# Altium integrated library Resistors$.IntLib: 248 symbols (part 1 of 3)
Pins are listed as number, name and electrical type; pins without a type are passive.

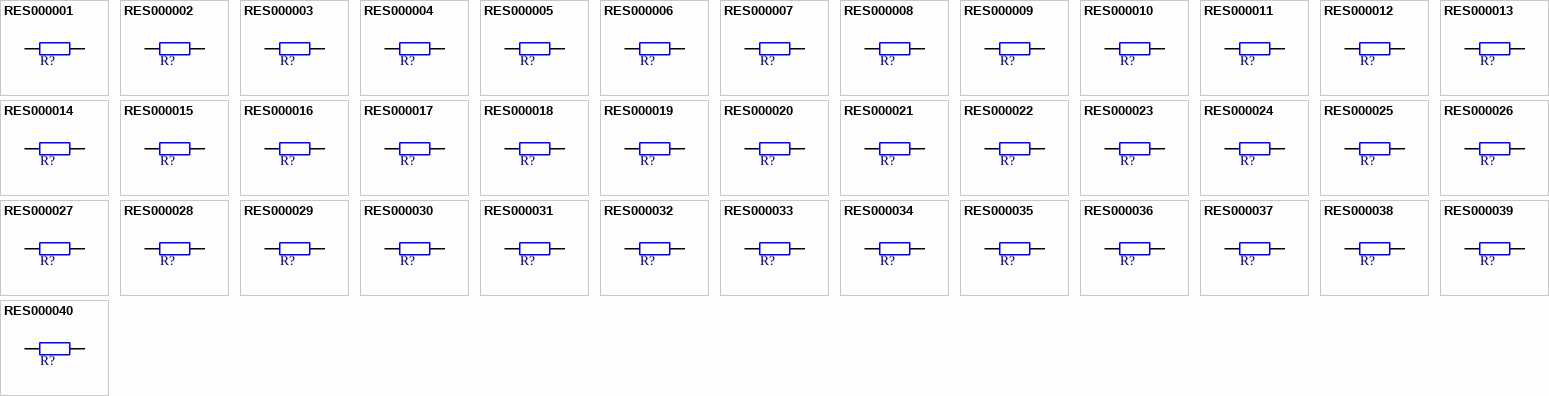
[diagram p0: symbols RES000001 to RES000040]

## RES000001
designator R?, comment 1  (value not drawn)
RES MF 1R TH; UoA Stock#: RES000001; Assembly Method: Through hole; Voltage/Current: 0.6W; Item Type: Item; Path: ece/ts/Lists/Stock Inventory; Value: 1; Size/Package: Axial 10mm; Supplier1: Element14; Supplier1-PN: 335216; Component Type: NA; Category: Resistor; Status: Active
footprint ECE-RESA0.4TH
pins: 1, 2

## RES000002
designator R?, comment 1.2  (value not drawn)
RES MF 1R2 TH; UoA Stock#: RES000002; Assembly Method: Through hole; Voltage/Current: 0.6W; Item Type: Item; Path: ece/ts/Lists/Stock Inventory; Value: 1.2; Size/Package: Axial 10mm; Supplier1: Active components; Supplier1-PN: T462738; Component Type: NA; Category: Resistor; Status: Active
footprint ECE-RESA0.4TH
pins: 1, 2

## RES000003
designator R?, comment 1.5R  (value not drawn)
RES MF 1R5 TH; UoA Stock#: RES000003; Assembly Method: Through hole; Voltage/Current: 0.6W; Item Type: Item; Path: ece/ts/Lists/Stock Inventory; Value: 1.5R; Size/Package: Axial 10mm; Supplier1: Active components; Supplier1-PN: T462162; Component Type: NA; Category: Resistor; Status: Active
footprint ECE-RESA0.4TH
pins: 1, 2

## RES000004
designator R?, comment 1.8R  (value not drawn)
RES MF 1R8 TH; UoA Stock#: RES000004; Assembly Method: Through hole; Voltage/Current: 0.6W; Item Type: Item; Path: ece/ts/Lists/Stock Inventory; Value: 1.8R; Size/Package: Axial 10mm; Supplier1: Active components; Supplier1-PN: T462164; Component Type: NA; Category: Resistor; Status: Active
footprint ECE-RESA0.4TH
pins: 1, 2

## RES000005
designator R?, comment 2.2R  (value not drawn)
RES MF 2R2 TH; UoA Stock#: RES000005; Assembly Method: Through hole; Voltage/Current: 0.6W; Item Type: Item; Path: ece/ts/Lists/Stock Inventory; Value: 2.2R; Size/Package: Axial 10mm; Supplier1: Active components; Supplier1-PN: T462168; Component Type: NA; Category: Resistor; Status: Active
footprint ECE-RESA0.4TH
pins: 1, 2

## RES000006
designator R?, comment 2.7R  (value not drawn)
RES MF 2R7 TH; UoA Stock#: RES000006; Assembly Method: Through hole; Voltage/Current: 0.6W; Item Type: Item; Path: ece/ts/Lists/Stock Inventory; Value: 2.7R; Size/Package: Axial 10mm; Supplier1: Active components; Supplier1-PN: T462170; Component Type: NA; Category: Resistor; Status: Active
footprint ECE-RESA0.4TH
pins: 1, 2

## RES000007
designator R?, comment 3.3R  (value not drawn)
RES MF 3R3 TH; UoA Stock#: RES000007; Assembly Method: Through hole; Voltage/Current: 0.6W; Item Type: Item; Path: ece/ts/Lists/Stock Inventory; Value: 3.3R; Size/Package: Axial 10mm; Supplier1: Active components; Supplier1-PN: T462174; Component Type: NA; Category: Resistor; Status: Active
footprint ECE-RESA0.4TH
pins: 1, 2

## RES000008
designator R?, comment 3.9R  (value not drawn)
RES MF 3R9 TH; UoA Stock#: RES000008; Assembly Method: Through hole; Voltage/Current: 0.6W; Item Type: Item; Path: ece/ts/Lists/Stock Inventory; Value: 3.9R; Size/Package: Axial 10mm; Supplier1: Active components; Supplier1-PN: T462176; Component Type: NA; Category: Resistor; Status: Active
footprint ECE-RESA0.4TH
pins: 1, 2

## RES000009
designator R?, comment 4.7R  (value not drawn)
RES MF 4R7 TH; UoA Stock#: RES000009; Assembly Method: Through hole; Voltage/Current: 0.6W; Item Type: Item; Path: ece/ts/Lists/Stock Inventory; Value: 4.7R; Size/Package: Axial 10mm; Supplier1: Active components; Supplier1-PN: T246800; Component Type: NA; Category: Resistor; Status: Active
footprint ECE-RESA0.4TH
pins: 1, 2

## RES000010
designator R?, comment 5.6R  (value not drawn)
RES MF 5R6 TH; UoA Stock#: RES000010; Assembly Method: Through hole; Voltage/Current: 0.6W; Item Type: Item; Path: ece/ts/Lists/Stock Inventory; Value: 5.6R; Size/Package: Axial 10mm; Supplier1: Active components; Supplier1-PN: T462182; Component Type: NA; Category: Resistor; Status: Active
footprint ECE-RESA0.4TH
pins: 1, 2

## RES000011
designator R?, comment 6.8R  (value not drawn)
RES MF 6R8 TH; UoA Stock#: RES000011; Assembly Method: Through hole; Voltage/Current: 0.6W; Item Type: Item; Path: ece/ts/Lists/Stock Inventory; Value: 6.8R; Size/Package: Axial 10mm; Supplier1: Active components; Supplier1-PN: T462185; Component Type: NA; Category: Resistor; Status: Active
footprint ECE-RESA0.4TH
pins: 1, 2

## RES000012
designator R?, comment 8.2R  (value not drawn)
RES MF 8R2 TH; UoA Stock#: RES000012; Assembly Method: Through hole; Voltage/Current: 0.6W; Item Type: Item; Path: ece/ts/Lists/Stock Inventory; Value: 8.2R; Size/Package: Axial 10mm; Supplier1: Active components; Supplier1-PN: T462188; Component Type: NA; Category: Resistor; Status: Active
footprint ECE-RESA0.4TH
pins: 1, 2

## RES000013
designator R?, comment 10R  (value not drawn)
RES MF 10R TH; UoA Stock#: RES000013; Assembly Method: Through hole; Voltage/Current: 0.6W; Item Type: Item; Path: ece/ts/Lists/Stock Inventory; Value: 10R; Size/Package: Axial 10mm; Supplier1: Active components; Supplier1-PN: T183970; Component Type: NA; Category: Resistor; Status: Active
footprint ECE-RESA0.4TH
pins: 1, 2

## RES000014
designator R?, comment 12R  (value not drawn)
RES MF 12R TH; UoA Stock#: RES000014; Assembly Method: Through hole; Voltage/Current: 0.6W; Item Type: Item; Path: ece/ts/Lists/Stock Inventory; Value: 12R; Size/Package: Axial 10mm; Supplier1: Active components; Supplier1-PN: T183978; Component Type: NA; Category: Resistor; Status: Active
footprint ECE-RESA0.4TH
pins: 1, 2

## RES000015
designator R?, comment 15R  (value not drawn)
RES MF 15R TH; UoA Stock#: RES000015; Assembly Method: Through hole; Voltage/Current: 0.6W; Item Type: Item; Path: ece/ts/Lists/Stock Inventory; Value: 15R; Size/Package: Axial 10mm; Supplier1: Active components; Supplier1-PN: T183987; Component Type: NA; Category: Resistor; Status: Active
footprint ECE-RESA0.4TH
pins: 1, 2

## RES000016
designator R?, comment 18R  (value not drawn)
RES MF 18R TH; UoA Stock#: RES000016; Assembly Method: Through hole; Voltage/Current: 0.6W; Item Type: Item; Path: ece/ts/Lists/Stock Inventory; Value: 18R; Size/Package: Axial 10mm; Supplier1: Active components; Supplier1-PN: T442059; Component Type: NA; Category: Resistor; Status: Active
footprint ECE-RESA0.4TH
pins: 1, 2

## RES000017
designator R?, comment 22R  (value not drawn)
RES MF 22R TH; UoA Stock#: RES000017; Assembly Method: Through hole; Voltage/Current: 0.6W; Item Type: Item; Path: ece/ts/Lists/Stock Inventory; Value: 22R; Size/Package: Axial 10mm; Supplier1: Active components; Supplier1-PN: T184012; Component Type: NA; Category: Resistor; Status: Active
footprint ECE-RESA0.4TH
pins: 1, 2

## RES000018
designator R?, comment 27R  (value not drawn)
RES MF 27R TH; UoA Stock#: RES000018; Assembly Method: Through hole; Voltage/Current: 0.6W; Item Type: Item; Path: ece/ts/Lists/Stock Inventory; Value: 27R; Size/Package: Axial 10mm; Supplier1: Active components; Supplier1-PN: T184019; Component Type: NA; Category: Resistor; Status: Active
footprint ECE-RESA0.4TH
pins: 1, 2

## RES000019
designator R?, comment 33R  (value not drawn)
RES MF 33R TH; UoA Stock#: RES000019; Assembly Method: Through hole; Voltage/Current: 0.6W; Item Type: Item; Path: ece/ts/Lists/Stock Inventory; Value: 33R; Size/Package: Axial 10mm; Supplier1: Active components; Supplier1-PN: T442095; Component Type: NA; Category: Resistor; Status: Active
footprint ECE-RESA0.4TH
pins: 1, 2

## RES000020
designator R?, comment 39R  (value not drawn)
RES MF 39R TH; UoA Stock#: RES000020; Assembly Method: Through hole; Voltage/Current: 0.6W; Item Type: Item; Path: ece/ts/Lists/Stock Inventory; Value: 39R; Size/Package: Axial 10mm; Supplier1: Active components; Supplier1-PN: T184038; Component Type: NA; Category: Resistor; Status: Active
footprint ECE-RESA0.4TH
pins: 1, 2

## RES000021
designator R?, comment 47R  (value not drawn)
RES MF 47R TH; UoA Stock#: RES000021; Assembly Method: Through hole; Voltage/Current: 0.6W; Item Type: Item; Path: ece/ts/Lists/Stock Inventory; Value: 47R; Size/Package: Axial 10mm; Supplier1: Active components; Supplier1-PN: T184048; Component Type: NA; Category: Resistor; Status: Active
footprint ECE-RESA0.4TH
pins: 1, 2

## RES000022
designator R?, comment 56R  (value not drawn)
RES MF 56R TH; UoA Stock#: RES000022; Assembly Method: Through hole; Voltage/Current: 0.6W; Item Type: Item; Path: ece/ts/Lists/Stock Inventory; Value: 56R; Size/Package: Axial 10mm; Supplier1: Active components; Supplier1-PN: T184060; Component Type: NA; Category: Resistor; Status: Active
footprint ECE-RESA0.4TH
pins: 1, 2

## RES000023
designator R?, comment 68R  (value not drawn)
RES MF 68R TH; UoA Stock#: RES000023; Assembly Method: Through hole; Voltage/Current: 0.6W; Item Type: Item; Path: ece/ts/Lists/Stock Inventory; Value: 68R; Size/Package: Axial 10mm; Supplier1: Active components; Supplier1-PN: T184070; Component Type: NA; Category: Resistor; Status: Active
footprint ECE-RESA0.4TH
pins: 1, 2

## RES000024
designator R?, comment 82R  (value not drawn)
RES MF 82R TH; UoA Stock#: RES000024; Assembly Method: Through hole; Voltage/Current: 0.6W; Item Type: Item; Path: ece/ts/Lists/Stock Inventory; Value: 82R; Size/Package: Axial 10mm; Supplier1: Active components; Supplier1-PN: T184081; Component Type: NA; Category: Resistor; Status: Active
footprint ECE-RESA0.4TH
pins: 1, 2

## RES000025
designator R?, comment 100R  (value not drawn)
RES MF 100R TH; UoA Stock#: RES000025; Assembly Method: Through hole; Voltage/Current: 0.6W; Item Type: Item; Path: ece/ts/Lists/Stock Inventory; Value: 100R; Size/Package: Axial 10mm; Supplier1: Active components; Supplier1-PN: T183968; Component Type: NA; Category: Resistor; Status: Active
footprint ECE-RESA0.4TH
pins: 1, 2

## RES000026
designator R?, comment 120R  (value not drawn)
RES MF 120R TH; UoA Stock#: RES000026; Assembly Method: Through hole; Voltage/Current: 0.6W; Item Type: Item; Path: ece/ts/Lists/Stock Inventory; Value: 120R; Size/Package: Axial 10mm; Supplier1: Active components; Supplier1-PN: T183976; Component Type: NA; Category: Resistor; Status: Active
footprint ECE-RESA0.4TH
pins: 1, 2

## RES000027
designator R?, comment 150R  (value not drawn)
RES MF 150R TH; UoA Stock#: RES000027; Assembly Method: Through hole; Voltage/Current: 0.6W; Item Type: Item; Path: ece/ts/Lists/Stock Inventory; Value: 150R; Size/Package: Axial 10mm; Supplier1: Active components; Supplier1-PN: T183985; Component Type: NA; Category: Resistor; Status: Active
footprint ECE-RESA0.4TH
pins: 1, 2

## RES000028
designator R?, comment 180R  (value not drawn)
RES MF 180R TH; UoA Stock#: RES000028; Assembly Method: Through hole; Voltage/Current: 0.6W; Item Type: Item; Path: ece/ts/Lists/Stock Inventory; Value: 180R; Size/Package: Axial 10mm; Supplier1: Active components; Supplier1-PN: T183993; Component Type: NA; Category: Resistor; Status: Active
footprint ECE-RESA0.4TH
pins: 1, 2

## RES000029
designator R?, comment 220R  (value not drawn)
RES MF 220R TH; UoA Stock#: RES000029; Assembly Method: Through hole; Voltage/Current: 0.6W; Item Type: Item; Path: ece/ts/Lists/Stock Inventory; Value: 220R; Size/Package: Axial 10mm; Supplier1: Active components; Supplier1-PN: T184010; Component Type: NA; Category: Resistor; Status: Active
footprint ECE-RESA0.4TH
pins: 1, 2

## RES000030
designator R?, comment 270R  (value not drawn)
RES MF 270R TH; UoA Stock#: RES000030; Assembly Method: Through hole; Voltage/Current: 0.6W; Item Type: Item; Path: ece/ts/Lists/Stock Inventory; Value: 270R; Size/Package: Axial 10mm; Supplier1: Active components; Supplier1-PN: T184017; Component Type: NA; Category: Resistor; Status: Active
footprint ECE-RESA0.4TH
pins: 1, 2

## RES000031
designator R?, comment 330R  (value not drawn)
RES MF 330R TH; UoA Stock#: RES000031; Assembly Method: Through hole; Voltage/Current: 0.6W; Item Type: Item; Path: ece/ts/Lists/Stock Inventory; Value: 330R; Size/Package: Axial 10mm; Supplier1: Active components; Supplier1-PN: T181673; Component Type: NA; Category: Resistor; Status: Active
footprint ECE-RESA0.4TH
pins: 1, 2

## RES000032
designator R?, comment 390R  (value not drawn)
RES MF 390R TH; UoA Stock#: RES000032; Assembly Method: Through hole; Voltage/Current: 0.6W; Item Type: Item; Path: ece/ts/Lists/Stock Inventory; Value: 390R; Size/Package: Axial 10mm; Supplier1: Active components; Supplier1-PN: T442101; Component Type: NA; Category: Resistor; Status: Active
footprint ECE-RESA0.4TH
pins: 1, 2

## RES000033
designator R?, comment 470R  (value not drawn)
RES MF 470R TH; UoA Stock#: RES000033; Assembly Method: Through hole; Voltage/Current: 0.6W; Item Type: Item; Path: ece/ts/Lists/Stock Inventory; Value: 470R; Size/Package: Axial 10mm; Supplier1: Active components; Supplier1-PN: T181649; Component Type: NA; Category: Resistor; Status: Active
footprint ECE-RESA0.4TH
pins: 1, 2

## RES000034
designator R?, comment 560R  (value not drawn)
RES MF 560R TH; UoA Stock#: RES000034; Assembly Method: Through hole; Voltage/Current: 0.6W; Item Type: Item; Path: ece/ts/Lists/Stock Inventory; Value: 560R; Size/Package: Axial 10mm; Supplier1: Active components; Supplier1-PN: T184056; Component Type: NA; Category: Resistor; Status: Active
footprint ECE-RESA0.4TH
pins: 1, 2

## RES000035
designator R?, comment 680R  (value not drawn)
RES MF 680R TH; UoA Stock#: RES000035; Assembly Method: Through hole; Voltage/Current: 0.6W; Item Type: Item; Path: ece/ts/Lists/Stock Inventory; Value: 680R; Size/Package: Axial 10mm; Supplier1: Active components; Supplier1-PN: T442134; Component Type: NA; Category: Resistor; Status: Active
footprint ECE-RESA0.4TH
pins: 1, 2

## RES000036
designator R?, comment 820R  (value not drawn)
RES MF 820R TH; UoA Stock#: RES000036; Assembly Method: Through hole; Voltage/Current: 0.6W; Item Type: Item; Path: ece/ts/Lists/Stock Inventory; Value: 820R; Size/Package: Axial 10mm; Supplier1: Active components; Supplier1-PN: T184079; Component Type: NA; Category: Resistor; Status: Active
footprint ECE-RESA0.4TH
pins: 1, 2

## RES000037
designator R?, comment 1K  (value not drawn)
RES MF 1K0 TH; UoA Stock#: RES000037; Assembly Method: Through hole; Voltage/Current: 0.6W; Item Type: Item; Path: ece/ts/Lists/Stock Inventory; Value: 1K; Size/Package: Axial 10mm; Supplier1: Active components; Supplier1-PN: T183997; Component Type: NA; Category: Resistor; Status: Active
footprint ECE-RESA0.4TH
pins: 1, 2

## RES000038
designator R?, comment 1k2  (value not drawn)
RES MF 1K2 TH; UoA Stock#: RES000038; Assembly Method: Through hole; Voltage/Current: 0.6W; Item Type: Item; Path: ece/ts/Lists/Stock Inventory; Value: 1k2; Size/Package: Axial 10mm; Supplier1: Active components; Supplier1-PN: T183999; Component Type: NA; Category: Resistor; Status: Active
footprint ECE-RESA0.4TH
pins: 1, 2

## RES000039
designator R?, comment 1K5  (value not drawn)
RES MF 1K5 TH; UoA Stock#: RES000039; Assembly Method: Through hole; Voltage/Current: 0.6W; Item Type: Item; Path: ece/ts/Lists/Stock Inventory; Value: 1K5; Size/Package: Axial 10mm; Supplier1: Active components; Supplier1-PN: T184001; Component Type: NA; Category: Resistor; Status: Active
footprint ECE-RESA0.4TH
pins: 1, 2

## RES000040
designator R?, comment 1K8  (value not drawn)
RES MF 1K8 TH; UoA Stock#: RES000040; Assembly Method: Through hole; Voltage/Current: 0.6W; Item Type: Item; Path: ece/ts/Lists/Stock Inventory; Value: 1K8; Size/Package: Axial 10mm; Supplier1: Active components; Supplier1-PN: T181650; Component Type: NA; Category: Resistor; Status: Active
footprint ECE-RESA0.4TH
pins: 1, 2

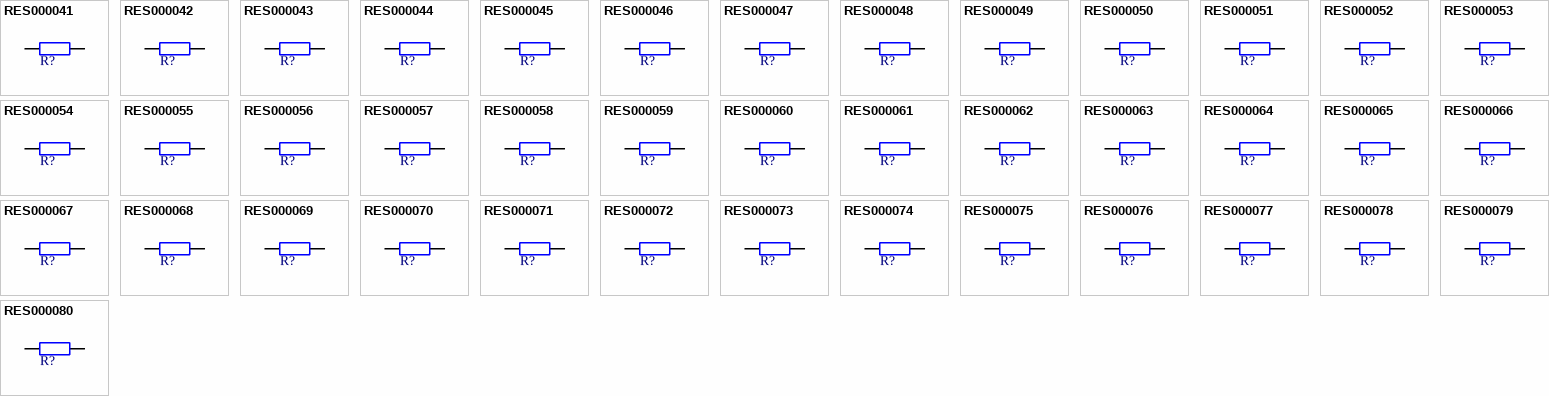
[diagram p1: symbols RES000041 to RES000080]

## RES000041
designator R?, comment 2K2  (value not drawn)
RES MF 2K2 TH; UoA Stock#: RES000041; Assembly Method: Through hole; Voltage/Current: 0.6W; Item Type: Item; Path: ece/ts/Lists/Stock Inventory; Value: 2K2; Size/Package: Axial 10mm; Supplier1: Active components; Supplier1-PN: T184021; Component Type: NA; Category: Resistor; Status: Active
footprint ECE-RESA0.4TH
pins: 1, 2

## RES000042
designator R?, comment 2K7  (value not drawn)
RES MF 2K7 TH; UoA Stock#: RES000042; Assembly Method: Through hole; Voltage/Current: 0.6W; Item Type: Item; Path: ece/ts/Lists/Stock Inventory; Value: 2K7; Size/Package: Axial 10mm; Supplier1: Active components; Supplier1-PN: T184023; Component Type: NA; Category: Resistor; Status: Active
footprint ECE-RESA0.4TH
pins: 1, 2

## RES000043
designator R?, comment 3K3  (value not drawn)
RES MF 3K3 TH; UoA Stock#: RES000043; Assembly Method: Through hole; Voltage/Current: 0.6W; Item Type: Item; Path: ece/ts/Lists/Stock Inventory; Value: 3K3; Size/Package: Axial 10mm; Supplier1: Active components; Supplier1-PN: T181651; Component Type: NA; Category: Resistor; Status: Active
footprint ECE-RESA0.4TH
pins: 1, 2

## RES000044
designator R?, comment 3K9  (value not drawn)
RES MF 3K9 TH; UoA Stock#: RES000044; Assembly Method: Through hole; Voltage/Current: 0.6W; Item Type: Item; Path: ece/ts/Lists/Stock Inventory; Value: 3K9; Size/Package: Axial 10mm; Supplier1: Active components; Supplier1-PN: T184041; Component Type: NA; Category: Resistor; Status: Active
footprint ECE-RESA0.4TH
pins: 1, 2

## RES000045
designator R?, comment 4K7  (value not drawn)
RES MF 4K7 TH; UoA Stock#: RES000045; Assembly Method: Through hole; Voltage/Current: 0.6W; Item Type: Item; Path: ece/ts/Lists/Stock Inventory; Value: 4K7; Size/Package: Axial 10mm; Supplier1: Active components; Supplier1-PN: T184050; Component Type: NA; Category: Resistor; Status: Active
footprint ECE-RESA0.4TH
pins: 1, 2

## RES000046
designator R?, comment 5K6  (value not drawn)
RES MF 5K6 TH; UoA Stock#: RES000046; Assembly Method: Through hole; Voltage/Current: 0.6W; Item Type: Item; Path: ece/ts/Lists/Stock Inventory; Value: 5K6; Size/Package: Axial 10mm; Supplier1: Active components; Supplier1-PN: T184062; Component Type: NA; Category: Resistor; Status: Active
footprint ECE-RESA0.4TH
pins: 1, 2

## RES000047
designator R?, comment 6K8  (value not drawn)
RES MF 6K8 TH; UoA Stock#: RES000047; Assembly Method: Through hole; Voltage/Current: 0.6W; Item Type: Item; Path: ece/ts/Lists/Stock Inventory; Value: 6K8; Size/Package: Axial 10mm; Supplier1: Active components; Supplier1-PN: T184072; Component Type: NA; Category: Resistor; Status: Active
footprint ECE-RESA0.4TH
pins: 1, 2

## RES000048
designator R?, comment 8K2  (value not drawn)
RES MF 8K2 TH; UoA Stock#: RES000048; Assembly Method: Through hole; Voltage/Current: 0.6W; Item Type: Item; Path: ece/ts/Lists/Stock Inventory; Value: 8K2; Size/Package: Axial 10mm; Supplier1: Active components; Supplier1-PN: T184082; Component Type: NA; Category: Resistor; Status: Active
footprint ECE-RESA0.4TH
pins: 1, 2

## RES000049
designator R?, comment 10K  (value not drawn)
RES MF 10K TH; UoA Stock#: RES000049; Assembly Method: Through hole; Voltage/Current: 0.6W; Item Type: Item; Path: ece/ts/Lists/Stock Inventory; Value: 10K; Size/Package: Axial 10mm; Supplier1: Active components; Supplier1-PN: T183969; Component Type: NA; Category: Resistor; Status: Active
footprint ECE-RESA0.4TH
pins: 1, 2

## RES000050
designator R?, comment 12K  (value not drawn)
RES MF 12K TH; UoA Stock#: RES000050; Assembly Method: Through hole; Voltage/Current: 0.6W; Item Type: Item; Path: ece/ts/Lists/Stock Inventory; Value: 12K; Size/Package: Axial 10mm; Supplier1: Active components; Supplier1-PN: T183977; Component Type: NA; Category: Resistor; Status: Active
footprint ECE-RESA0.4TH
pins: 1, 2

## RES000051
designator R?, comment 15K  (value not drawn)
RES MF 15K TH; UoA Stock#: RES000051; Assembly Method: Through hole; Voltage/Current: 0.6W; Item Type: Item; Path: ece/ts/Lists/Stock Inventory; Value: 15K; Size/Package: Axial 10mm; Supplier1: Active components; Supplier1-PN: T183986; Component Type: NA; Category: Resistor; Status: Active
footprint ECE-RESA0.4TH
pins: 1, 2

## RES000052
designator R?, comment 18K  (value not drawn)
RES MF 18K TH; UoA Stock#: RES000052; Assembly Method: Through hole; Voltage/Current: 0.6W; Item Type: Item; Path: ece/ts/Lists/Stock Inventory; Value: 18K; Size/Package: Axial 10mm; Supplier1: Active components; Supplier1-PN: T183994; Component Type: NA; Category: Resistor; Status: Active
footprint ECE-RESA0.4TH
pins: 1, 2

## RES000053
designator R?, comment 22K  (value not drawn)
RES MF 22K TH; UoA Stock#: RES000053; Assembly Method: Through hole; Voltage/Current: 0.6W; Item Type: Item; Path: ece/ts/Lists/Stock Inventory; Value: 22K; Size/Package: Axial 10mm; Supplier1: Active components; Supplier1-PN: T184011; Component Type: NA; Category: Resistor; Status: Active
footprint ECE-RESA0.4TH
pins: 1, 2

## RES000054
designator R?, comment 27K  (value not drawn)
RES MF 27K TH; UoA Stock#: RES000054; Assembly Method: Through hole; Voltage/Current: 0.6W; Item Type: Item; Path: ece/ts/Lists/Stock Inventory; Value: 27K; Size/Package: Axial 10mm; Supplier1: Active components; Supplier1-PN: T184018; Component Type: NA; Category: Resistor; Status: Active
footprint ECE-RESA0.4TH
pins: 1, 2

## RES000055
designator R?, comment 33K  (value not drawn)
RES MF 33K TH; UoA Stock#: RES000055; Assembly Method: Through hole; Voltage/Current: 0.6W; Item Type: Item; Path: ece/ts/Lists/Stock Inventory; Value: 33K; Size/Package: Axial 10mm; Supplier1: Active components; Supplier1-PN: T184029; Component Type: NA; Category: Resistor; Status: Active
footprint ECE-RESA0.4TH
pins: 1, 2

## RES000056
designator R?, comment 39K  (value not drawn)
RES MF 39K TH; UoA Stock#: RES000056; Assembly Method: Through hole; Voltage/Current: 0.6W; Item Type: Item; Path: ece/ts/Lists/Stock Inventory; Value: 39K; Size/Package: Axial 10mm; Supplier1: Active components; Supplier1-PN: T184037; Component Type: NA; Category: Resistor; Status: Active
footprint ECE-RESA0.4TH
pins: 1, 2

## RES000057
designator R?, comment 47K  (value not drawn)
RES MF 47K TH; UoA Stock#: RES000057; Assembly Method: Through hole; Voltage/Current: 0.6W; Item Type: Item; Path: ece/ts/Lists/Stock Inventory; Value: 47K; Size/Package: Axial 10mm; Supplier1: Active components; Supplier1-PN: T184047; Component Type: NA; Category: Resistor; Status: Active
footprint ECE-RESA0.4TH
pins: 1, 2

## RES000058
designator R?, comment 56K  (value not drawn)
RES MF 56K TH; UoA Stock#: RES000058; Assembly Method: Through hole; Voltage/Current: 0.6W; Item Type: Item; Path: ece/ts/Lists/Stock Inventory; Value: 56K; Size/Package: Axial 10mm; Supplier1: Active components; Supplier1-PN: T442124; Component Type: NA; Category: Resistor; Status: Active
footprint ECE-RESA0.4TH
pins: 1, 2

## RES000059
designator R?, comment 68K  (value not drawn)
RES MF 68K TH; UoA Stock#: RES000059; Assembly Method: Through hole; Voltage/Current: 0.6W; Item Type: Item; Path: ece/ts/Lists/Stock Inventory; Value: 68K; Size/Package: Axial 10mm; Supplier1: Active components; Supplier1-PN: T184069; Component Type: NA; Category: Resistor; Status: Active
footprint ECE-RESA0.4TH
pins: 1, 2

## RES000060
designator R?, comment 82K  (value not drawn)
RES MF 82K TH; UoA Stock#: RES000060; Assembly Method: Through hole; Voltage/Current: 0.6W; Item Type: Item; Path: ece/ts/Lists/Stock Inventory; Value: 82K; Size/Package: Axial 10mm; Supplier1: Active components; Supplier1-PN: T184080; Component Type: NA; Category: Resistor; Status: Active
footprint ECE-RESA0.4TH
pins: 1, 2

## RES000061
designator R?, comment 100K  (value not drawn)
RES MF 100K TH; UoA Stock#: RES000061; Assembly Method: Through hole; Voltage/Current: 0.6W; Item Type: Item; Path: ece/ts/Lists/Stock Inventory; Value: 100K; Size/Package: Axial 10mm; Supplier1: Active components; Supplier1-PN: T183967; Component Type: NA; Category: Resistor; Status: Active
footprint ECE-RESA0.4TH
pins: 1, 2

## RES000062
designator R?, comment 120K  (value not drawn)
RES MF 120K TH; UoA Stock#: RES000062; Assembly Method: Through hole; Voltage/Current: 0.6W; Item Type: Item; Path: ece/ts/Lists/Stock Inventory; Value: 120K; Size/Package: Axial 10mm; Supplier1: Active components; Supplier1-PN: T183975; Component Type: NA; Category: Resistor; Status: Active
footprint ECE-RESA0.4TH
pins: 1, 2

## RES000063
designator R?, comment 150K  (value not drawn)
RES MF 150K TH; UoA Stock#: RES000063; Assembly Method: Through hole; Voltage/Current: 0.6W; Item Type: Item; Path: ece/ts/Lists/Stock Inventory; Value: 150K; Size/Package: Axial 10mm; Supplier1: Active components; Supplier1-PN: T183984; Component Type: NA; Category: Resistor; Status: Active
footprint ECE-RESA0.4TH
pins: 1, 2

## RES000064
designator R?, comment 180K  (value not drawn)
RES MF 180K TH; UoA Stock#: RES000064; Assembly Method: Through hole; Voltage/Current: 0.6W; Item Type: Item; Path: ece/ts/Lists/Stock Inventory; Value: 180K; Size/Package: Axial 10mm; Supplier1: Active components; Supplier1-PN: T183992; Component Type: NA; Category: Resistor; Status: Active
footprint ECE-RESA0.4TH
pins: 1, 2

## RES000065
designator R?, comment 220K  (value not drawn)
RES MF 220K TH; UoA Stock#: RES000065; Assembly Method: Through hole; Voltage/Current: 0.6W; Item Type: Item; Path: ece/ts/Lists/Stock Inventory; Value: 220K; Size/Package: Axial 10mm; Supplier1: Active components; Supplier1-PN: T184009; Component Type: NA; Category: Resistor; Status: Active
footprint ECE-RESA0.4TH
pins: 1, 2

## RES000066
designator R?, comment 270K  (value not drawn)
RES MF 270K TH; UoA Stock#: RES000066; Assembly Method: Through hole; Voltage/Current: 0.6W; Item Type: Item; Path: ece/ts/Lists/Stock Inventory; Value: 270K; Size/Package: Axial 10mm; Supplier1: Active components; Supplier1-PN: T181652; Component Type: NA; Category: Resistor; Status: Active
footprint ECE-RESA0.4TH
pins: 1, 2

## RES000067
designator R?, comment 330K  (value not drawn)
RES MF 330K TH; UoA Stock#: RES000067; Assembly Method: Through hole; Voltage/Current: 0.6W; Item Type: Item; Path: ece/ts/Lists/Stock Inventory; Value: 330K; Size/Package: Axial 10mm; Supplier1: Active components; Supplier1-PN: T184028; Component Type: NA; Category: Resistor; Status: Active
footprint ECE-RESA0.4TH
pins: 1, 2

## RES000068
designator R?, comment 390K  (value not drawn)
RES MF 390K TH; UoA Stock#: RES000068; Assembly Method: Through hole; Voltage/Current: 0.6W; Item Type: Item; Path: ece/ts/Lists/Stock Inventory; Value: 390K; Size/Package: Axial 10mm; Supplier1: Active components; Supplier1-PN: T184035; Component Type: NA; Category: Resistor; Status: Active
footprint ECE-RESA0.4TH
pins: 1, 2

## RES000069
designator R?, comment 470K  (value not drawn)
RES MF 470K TH; UoA Stock#: RES000069; Assembly Method: Through hole; Voltage/Current: 0.6W; Item Type: Item; Path: ece/ts/Lists/Stock Inventory; Value: 470K; Size/Package: Axial 10mm; Supplier1: Active components; Supplier1-PN: T184046; Component Type: NA; Category: Resistor; Status: Active
footprint ECE-RESA0.4TH
pins: 1, 2

## RES000070
designator R?, comment 560K  (value not drawn)
RES MF 560K TH; UoA Stock#: RES000070; Assembly Method: Through hole; Voltage/Current: 0.6W; Item Type: Item; Path: ece/ts/Lists/Stock Inventory; Value: 560K; Size/Package: Axial 10mm; Supplier1: Active components; Supplier1-PN: T184055; Component Type: NA; Category: Resistor; Status: Active
footprint ECE-RESA0.4TH
pins: 1, 2

## RES000071
designator R?, comment 680K  (value not drawn)
RES MF 680K TH; UoA Stock#: RES000071; Assembly Method: Through hole; Voltage/Current: 0.6W; Item Type: Item; Path: ece/ts/Lists/Stock Inventory; Value: 680K; Size/Package: Axial 10mm; Supplier1: Active components; Supplier1-PN: T184067; Component Type: NA; Category: Resistor; Status: Active
footprint ECE-RESA0.4TH
pins: 1, 2

## RES000072
designator R?, comment 820K  (value not drawn)
RES MF 820K TH; UoA Stock#: RES000072; Assembly Method: Through hole; Voltage/Current: 0.6W; Item Type: Item; Path: ece/ts/Lists/Stock Inventory; Value: 820K; Size/Package: Axial 10mm; Supplier1: Active components; Supplier1-PN: T442144; Component Type: NA; Category: Resistor; Status: Active
footprint ECE-RESA0.4TH
pins: 1, 2

## RES000073
designator R?, comment 1M  (value not drawn)
RES MF 1M TH; UoA Stock#: RES000073; Assembly Method: Through hole; Voltage/Current: 0.6W; Item Type: Item; Path: ece/ts/Lists/Stock Inventory; Value: 1M; Size/Package: Axial 10mm; Supplier1: Active components; Supplier1-PN: T442647; Component Type: NA; Category: Resistor; Status: Active
footprint ECE-RESA0.4TH
pins: 1, 2

## RES000074
designator R?, comment 1M2  (value not drawn)
RES MF 1M2 TH; UoA Stock#: RES000074; Assembly Method: Through hole; Item Type: Item; Path: ece/ts/Lists/Stock Inventory; Value: 1M2; Size/Package: Axial 10mm; Component Type: NA; Category: Resistor; Status: Active
footprint ECE-RESA0.4TH
pins: 1, 2

## RES000075
designator R?, comment 1M5  (value not drawn)
RES MF 1M5 TH; UoA Stock#: RES000075; Assembly Method: Through hole; Item Type: Item; Path: ece/ts/Lists/Stock Inventory; Value: 1M5; Size/Package: Axial 10mm; Component Type: NA; Category: Resistor; Status: Active
footprint ECE-RESA0.4TH
pins: 1, 2

## RES000076
designator R?, comment 1M8  (value not drawn)
RES MF 1M8 TH; UoA Stock#: RES000076; Assembly Method: Through hole; Item Type: Item; Path: ece/ts/Lists/Stock Inventory; Value: 1M8; Size/Package: Axial 10mm; Component Type: NA; Category: Resistor; Status: Active
footprint ECE-RESA0.4TH
pins: 1, 2

## RES000077
designator R?, comment 2M2  (value not drawn)
RES MF 2M2 TH; UoA Stock#: RES000077; Assembly Method: Through hole; Item Type: Item; Path: ece/ts/Lists/Stock Inventory; Value: 2M2; Size/Package: Axial 10mm; Component Type: NA; Category: Resistor; Status: Active
footprint ECE-RESA0.4TH
pins: 1, 2

## RES000078
designator R?, comment 2M7  (value not drawn)
RES MF 2M7 TH; UoA Stock#: RES000078; Assembly Method: Through hole; Item Type: Item; Path: ece/ts/Lists/Stock Inventory; Value: 2M7; Size/Package: Axial 10mm; Component Type: NA; Category: Resistor; Status: Active
footprint ECE-RESA0.4TH
pins: 1, 2

## RES000079
designator R?, comment 3M3  (value not drawn)
RES MF 3M3 TH; UoA Stock#: RES000079; Assembly Method: Through hole; Item Type: Item; Path: ece/ts/Lists/Stock Inventory; Value: 3M3; Size/Package: Axial 10mm; Component Type: NA; Category: Resistor; Status: Active
footprint ECE-RESA0.4TH
pins: 1, 2

## RES000080
designator R?, comment 3M9  (value not drawn)
RES MF 3M9 TH; UoA Stock#: RES000080; Assembly Method: Through hole; Item Type: Item; Path: ece/ts/Lists/Stock Inventory; Value: 3M9; Size/Package: Axial 10mm; Component Type: NA; Category: Resistor; Status: Active
footprint ECE-RESA0.4TH
pins: 1, 2

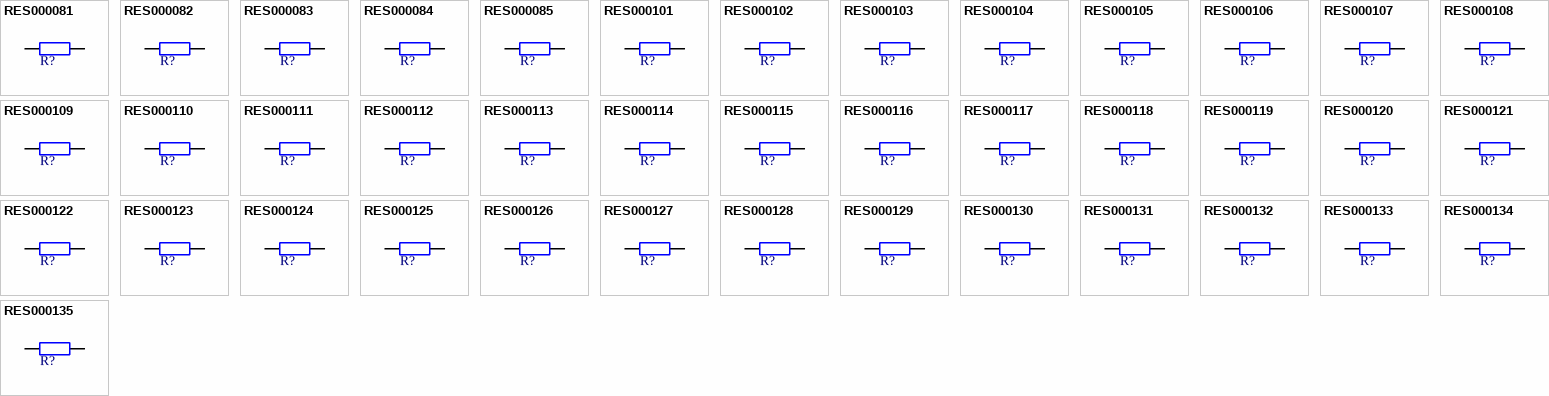
[diagram p2: symbols RES000081 to RES000135]

## RES000081
designator R?, comment 4M7  (value not drawn)
RES MF 4M7 TH; UoA Stock#: RES000081; Assembly Method: Through hole; Item Type: Item; Path: ece/ts/Lists/Stock Inventory; Value: 4M7; Size/Package: Axial 10mm; Component Type: NA; Category: Resistor; Status: Active
footprint ECE-RESA0.4TH
pins: 1, 2

## RES000082
designator R?, comment 5M6  (value not drawn)
RES MF 5M6 TH; UoA Stock#: RES000082; Assembly Method: Through hole; Item Type: Item; Path: ece/ts/Lists/Stock Inventory; Value: 5M6; Size/Package: Axial 10mm; Component Type: NA; Category: Resistor; Status: Active
footprint ECE-RESA0.4TH
pins: 1, 2

## RES000083
designator R?, comment 6M8  (value not drawn)
RES MF 6M8 TH; UoA Stock#: RES000083; Assembly Method: Through hole; Item Type: Item; Path: ece/ts/Lists/Stock Inventory; Value: 6M8; Size/Package: Axial 10mm; Component Type: NA; Category: Resistor; Status: Active
footprint ECE-RESA0.4TH
pins: 1, 2

## RES000084
designator R?, comment 8M2  (value not drawn)
RES MF 8M2 TH; UoA Stock#: RES000084; Assembly Method: Through hole; Item Type: Item; Path: ece/ts/Lists/Stock Inventory; Value: 8M2; Size/Package: Axial 10mm; Component Type: NA; Category: Resistor; Status: Active
footprint ECE-RESA0.4TH
pins: 1, 2

## RES000085
designator R?, comment 10M  (value not drawn)
RES MF 10M TH; UoA Stock#: RES000085; Assembly Method: Through hole; Item Type: Item; Path: ece/ts/Lists/Stock Inventory; Value: 10M; Size/Package: Axial 10mm; Component Type: NA; Category: Resistor; Status: Active
footprint ECE-RESA0.4TH
pins: 1, 2

## RES000101
designator R?, comment 0R  (value not drawn)
RES 0R 1608 SM; UoA Stock#: RES000101; Assembly Method: Surface Mount; Voltage/Current: 1/10W; Item Type: Item; Path: ece/ts/Lists/Stock Inventory; Value: 0R; Size/Package: 1608 (0603); Component Type: RES-1608-0R; Category: Resistor; Status: Active
footprint ECE-RESC1608-0603SM
pins: 1, 2

## RES000102
designator R?, comment 1R  (value not drawn)
RES 1R 1608 SM; UoA Stock#: RES000102; Assembly Method: Surface Mount; Voltage/Current: 1/10W; Item Type: Item; Path: ece/ts/Lists/Stock Inventory; Value: 1R; Size/Package: 1608 (0603); Component Type: RES-1608-1R; Category: Resistor; Status: Active
footprint ECE-RESC1608-0603SM
pins: 1, 2

## RES000103
designator R?, comment 1.2R  (value not drawn)
RES CER 1.2R 1608 SM; UoA Stock#: RES000103; Assembly Method: Surface Mount; Voltage/Current: 1/10W; Item Type: Item; Path: ece/ts/Lists/Stock Inventory; Value: 1.2R; Size/Package: 1608 (0603); Component Type: RES-1608-1R2; Category: Resistor; Status: Active
footprint ECE-RESC1608-0603SM
pins: 1, 2

## RES000104
designator R?, comment 1.5R  (value not drawn)
RES CER 1.5R 1608 SM; UoA Stock#: RES000104; Assembly Method: Surface Mount; Voltage/Current: 1/10W; Item Type: Item; Path: ece/ts/Lists/Stock Inventory; Value: 1.5R; Size/Package: 2012 (0805); Component Type: RES-1608-1R5; Category: Resistor; Status: Active
footprint ECE-RESC1608-0603SM
pins: 1, 2

## RES000105
designator R?, comment 1.8R  (value not drawn)
RES CER 1.8R 1608 SM; UoA Stock#: RES000105; Assembly Method: Surface Mount; Voltage/Current: 1/10W; Item Type: Item; Path: ece/ts/Lists/Stock Inventory; Value: 1.8R; Size/Package: 2012 (0805); Component Type: RES-1608-1R8; Category: Resistor; Status: Active
footprint ECE-RESC1608-0603SM
pins: 1, 2

## RES000106
designator R?, comment 2.2R  (value not drawn)
RES CER 2R2 1608 SM; UoA Stock#: RES000106; Assembly Method: Surface Mount; Voltage/Current: 1/10W; Item Type: Item; Path: ece/ts/Lists/Stock Inventory; Value: 2.2R; Size/Package: 1608 (0603); Component Type: RES-1608-2R2; Category: Resistor; Status: Active
footprint ECE-RESC1608-0603SM
pins: 1, 2

## RES000107
designator R?, comment 2.7R  (value not drawn)
RES CER 2R7 1608 SM; UoA Stock#: RES000107; Assembly Method: Surface Mount; Voltage/Current: 1/10W; Item Type: Item; Path: ece/ts/Lists/Stock Inventory; Value: 2.7R; Size/Package: 1608 (0603); Component Type: RES-1608-2R7; Category: Resistor; Status: Active
footprint ECE-RESC1608-0603SM
pins: 1, 2

## RES000108
designator R?, comment 3.3R  (value not drawn)
RES CER 3R3 1608 SM; UoA Stock#: RES000108; Assembly Method: Surface Mount; Voltage/Current: 1/10W; Item Type: Item; Path: ece/ts/Lists/Stock Inventory; Value: 3.3R; Size/Package: 1608 (0603); Component Type: RES-1608-3R3; Category: Resistor; Status: Active
footprint ECE-RESC1608-0603SM
pins: 1, 2

## RES000109
designator R?, comment 3.9R  (value not drawn)
RES CER 3R9 1608 SM; UoA Stock#: RES000109; Assembly Method: Surface Mount; Voltage/Current: 1/10W; Item Type: Item; Path: ece/ts/Lists/Stock Inventory; Value: 3.9R; Size/Package: 1608 (0603); Component Type: RES-1608-3R9; Category: Resistor; Status: Active
footprint ECE-RESC1608-0603SM
pins: 1, 2

## RES000110
designator R?, comment 4.7R  (value not drawn)
RES CER 4R7 1608 SM; UoA Stock#: RES000110; Assembly Method: Surface Mount; Voltage/Current: 1/10W; Item Type: Item; Path: ece/ts/Lists/Stock Inventory; Value: 4.7R; Size/Package: 1608 (0603); Component Type: RES-1608-4R7; Category: Resistor; Status: Active
footprint ECE-RESC1608-0603SM
pins: 1, 2

## RES000111
designator R?, comment 5.6R  (value not drawn)
RES CER 5R6 1608 SM; UoA Stock#: RES000111; Assembly Method: Surface Mount; Voltage/Current: 1/10W; Item Type: Item; Path: ece/ts/Lists/Stock Inventory; Value: 5.6R; Size/Package: 1608 (0603); Component Type: RES-1608-5R6; Category: Resistor; Status: Active
footprint ECE-RESC1608-0603SM
pins: 1, 2

## RES000112
designator R?, comment 6.8R  (value not drawn)
RES CER 6R8 1608 SM; UoA Stock#: RES000112; Assembly Method: Surface Mount; Voltage/Current: 1/10W; Item Type: Item; Path: ece/ts/Lists/Stock Inventory; Value: 6.8R; Size/Package: 1608 (0603); Component Type: RES-1608-6R8; Category: Resistor; Status: Active
footprint ECE-RESC1608-0603SM
pins: 1, 2

## RES000113
designator R?, comment 8.2R  (value not drawn)
RES CER 8R2 1608 SM; UoA Stock#: RES000113; Assembly Method: Surface Mount; Voltage/Current: 1/10W; Item Type: Item; Path: ece/ts/Lists/Stock Inventory; Value: 8.2R; Size/Package: 1608 (0603); Component Type: RES-1608-8R2; Category: Resistor; Status: Active
footprint ECE-RESC1608-0603SM
pins: 1, 2

## RES000114
designator R?, comment 10R  (value not drawn)
RES CER 10R 1608 SM; Manufactuer: Panasonic; Manufacturer-PN: ERJ-3EKF10R0V; UoA Stock#: RES000114; Assembly Method: Surface Mount; Voltage/Current: 1/10W; Item Type: Item; Path: ece/ts/Lists/Stock Inventory; Value: 10R; Size/Package: 1608 (0603); Datasheet Link: http://share.engineering.auckland.ac.nz/ece/ts/Student%20Documents/Panasonic-Resistors.pdf; Supplier1: Digikey; Supplier1-PN: P10.0HTR-ND; Component Type: RES-1608-10R; Category: Resistor; Status: Active
footprint ECE-RESC1608-0603SM
pins: 1, 2

## RES000115
designator R?, comment 12R  (value not drawn)
RES CER 12R 1608 SM; UoA Stock#: RES000115; Assembly Method: Surface Mount; Voltage/Current: 1/10W; Item Type: Item; Path: ece/ts/Lists/Stock Inventory; Value: 12R; Size/Package: 1608 (0603); Component Type: RES-1608-12R; Category: Resistor; Status: Active
footprint ECE-RESC1608-0603SM
pins: 1, 2

## RES000116
designator R?, comment 15R  (value not drawn)
RES CER 15R 1608 SM; Manufactuer: Yageo; Manufacturer-PN: RC0603FR-0715RL; UoA Stock#: RES000116; Assembly Method: Surface Mount; Voltage/Current: 1/10W; Item Type: Item; Path: ece/ts/Lists/Stock Inventory; Value: 15R; Size/Package: 1608 (0603); Datasheet Link: http://share.engineering.auckland.ac.nz/ece/ts/Student%20Documents/Yageo-Resistors.pdf; Supplier1: Digikey; Supplier1-PN: 311-15.0HRTR-ND; Component Type: RES-1608-15R; Category: Resistor; Status: Active
footprint ECE-RESC1608-0603SM
pins: 1, 2

## RES000117
designator R?, comment 18R  (value not drawn)
RES CER 3R9 1608 SM; UoA Stock#: RES000117; Assembly Method: Surface Mount; Voltage/Current: 1/10W; Item Type: Item; Path: ece/ts/Lists/Stock Inventory; Value: 18R; Size/Package: 1608 (0603); Component Type: RES-1608-18R; Category: Resistor; Status: Active
footprint ECE-RESC1608-0603SM
pins: 1, 2

## RES000118
designator R?, comment 22R  (value not drawn)
RES CER 22R 1608 SM; Manufactuer: Panasonic; Manufacturer-PN: ERJ-3EKF22R0V; UoA Stock#: RES000118; Assembly Method: Surface Mount; Voltage/Current: 1/10W; Item Type: Item; Path: ece/ts/Lists/Stock Inventory; Value: 22R; Size/Package: 1608 (0603); Datasheet Link: http://share.engineering.auckland.ac.nz/ece/ts/Student%20Documents/Panasonic-Resistors.pdf; Supplier1: Digikey; Supplier1-PN: P22.0HTR-ND; Component Type: RES-1608-22R; Category: Resistor; Status: Active
footprint ECE-RESC1608-0603SM
pins: 1, 2

## RES000119
designator R?, comment 27R  (value not drawn)
RES CER 27R 1608 SM; UoA Stock#: RES000119; Assembly Method: Surface Mount; Voltage/Current: 1/10W; Item Type: Item; Path: ece/ts/Lists/Stock Inventory; Value: 27R; Size/Package: 1608 (0603); Component Type: RES-1608-27R; Category: Resistor; Status: Active
footprint ECE-RESC1608-0603SM
pins: 1, 2

## RES000120
designator R?, comment 33R  (value not drawn)
RES CER 33R 1608 SM; Manufactuer: Yageo; Manufacturer-PN: RC0603FR-0733RL; UoA Stock#: RES000120; Assembly Method: Surface Mount; Voltage/Current: 1/10W; Item Type: Item; Path: ece/ts/Lists/Stock Inventory; Value: 33R; Size/Package: 1608 (0603); Datasheet Link: http://share.engineering.auckland.ac.nz/ece/ts/Student%20Documents/Yageo-Resistors.pdf; Supplier1: Digikey; Supplier1-PN: 311-33.0HRTR-ND; Component Type: RES-1608-33R; Category: Resistor; Status: Active
footprint ECE-RESC1608-0603SM
pins: 1, 2

## RES000121
designator R?, comment 39R  (value not drawn)
RES CER 39R 1608 SM; UoA Stock#: RES000121; Assembly Method: Surface Mount; Voltage/Current: 1/10W; Item Type: Item; Path: ece/ts/Lists/Stock Inventory; Value: 39R; Size/Package: 1608 (0603); Component Type: RES-1608-39R; Category: Resistor; Status: Active
footprint ECE-RESC1608-0603SM
pins: 1, 2

## RES000122
designator R?, comment 47R  (value not drawn)
RES CER 47R 1608 SM; Manufactuer: Yageo; Manufacturer-PN: RC0603FR-0747RL; UoA Stock#: RES000122; Assembly Method: Surface Mount; Voltage/Current: 1/10W; Item Type: Item; Path: ece/ts/Lists/Stock Inventory; Value: 47R; Size/Package: 1608 (0603); Datasheet Link: http://share.engineering.auckland.ac.nz/ece/ts/Student%20Documents/Yageo-Resistors.pdf; Supplier1: Digikey; Supplier1-PN: 311-47.0HRTR-ND; Component Type: RES-1608-47R; Category: Resistor; Status: Active
footprint ECE-RESC1608-0603SM
pins: 1, 2

## RES000123
designator R?, comment 56R  (value not drawn)
RES CER 56R 1608 SM; UoA Stock#: RES000123; Assembly Method: Surface Mount; Voltage/Current: 1/10W; Item Type: Item; Path: ece/ts/Lists/Stock Inventory; Value: 56R; Size/Package: 1608 (0603); Component Type: RES-1608-56R; Category: Resistor; Status: Active
footprint ECE-RESC1608-0603SM
pins: 1, 2

## RES000124
designator R?, comment 68R  (value not drawn)
RES CER 68R 1608 SM; Manufactuer: Yageo; Manufacturer-PN: RC0603FR-0768RL; UoA Stock#: RES000124; Assembly Method: Surface Mount; Voltage/Current: 1/10W; Item Type: Item; Path: ece/ts/Lists/Stock Inventory; Value: 68R; Size/Package: 1608 (0603); Datasheet Link: http://share.engineering.auckland.ac.nz/ece/ts/Student%20Documents/Yageo-Resistors.pdf; Supplier1: Digikey; Supplier1-PN: 311-68.0HRTR-ND; Component Type: RES-1608-68R; Category: Resistor; Status: Active
footprint ECE-RESC1608-0603SM
pins: 1, 2

## RES000125
designator R?, comment 82R  (value not drawn)
RES CER 82R 1608 SM; UoA Stock#: RES000125; Assembly Method: Surface Mount; Voltage/Current: 1/10W; Item Type: Item; Path: ece/ts/Lists/Stock Inventory; Value: 82R; Size/Package: 1608 (0603); Component Type: RES-1608-82R; Category: Resistor; Status: Active
footprint ECE-RESC1608-0603SM
pins: 1, 2

## RES000126
designator R?, comment 100R  (value not drawn)
RES CER 100R 1608 SM; Manufactuer: Yageo; Manufacturer-PN: RC0603FR-07100RL; UoA Stock#: RES000126; Assembly Method: Surface Mount; Voltage/Current: 1/10W; Item Type: Item; Path: ece/ts/Lists/Stock Inventory; Value: 100R; Size/Package: 1608 (0603); Datasheet Link: http://share.engineering.auckland.ac.nz/ece/ts/Student%20Documents/Yageo-Resistors.pdf; Supplier1: Digikey; Supplier1-PN: 311-100HRTR-ND; Component Type: RES-1608-100R; Category: Resistor; Status: Active
footprint ECE-RESC1608-0603SM
pins: 1, 2

## RES000127
designator R?, comment 120R  (value not drawn)
RES CER 120R 1608 SM; UoA Stock#: RES000127; Assembly Method: Surface Mount; Voltage/Current: 1/10W; Item Type: Item; Path: ece/ts/Lists/Stock Inventory; Value: 120R; Size/Package: 1608 (0603); Component Type: RES-1608-120R; Category: Resistor; Status: Active
footprint ECE-RESC1608-0603SM
pins: 1, 2

## RES000128
designator R?, comment 150R  (value not drawn)
RES CER 150R 1608 SM; Manufactuer: Yageo; Manufacturer-PN: RC0603FR-07150RL; UoA Stock#: RES000128; Assembly Method: Surface Mount; Voltage/Current: 1/10W; Item Type: Item; Path: ece/ts/Lists/Stock Inventory; Value: 150R; Size/Package: 1608 (0603); Datasheet Link: http://share.engineering.auckland.ac.nz/ece/ts/Student%20Documents/Yageo-Resistors.pdf; Supplier1: Digikey; Supplier1-PN: 311-150HRTR-ND; Component Type: RES-1608-150R; Category: Resistor; Status: Active
footprint ECE-RESC1608-0603SM
pins: 1, 2

## RES000129
designator R?, comment 180R  (value not drawn)
RES CER 180R 1608 SM; UoA Stock#: RES000129; Assembly Method: Surface Mount; Voltage/Current: 1/10W; Item Type: Item; Path: ece/ts/Lists/Stock Inventory; Value: 180R; Size/Package: 1608 (0603); Component Type: RES-1608-180R; Category: Resistor; Status: Active
footprint ECE-RESC1608-0603SM
pins: 1, 2

## RES000130
designator R?, comment 220R  (value not drawn)
RES CER 220R 1608 SM; Manufactuer: Samsung; Manufacturer-PN: RC1608F221CS; UoA Stock#: RES000130; Assembly Method: Surface Mount; Voltage/Current: 1/10W; Item Type: Item; Path: ece/ts/Lists/Stock Inventory; Value: 220R; Size/Package: 1608 (0603); Datasheet Link: http://share.engineering.auckland.ac.nz/ece/ts/Student%20Documents/Samsung-CHIP_RESISTOR_150112_1.pdf; Supplier1: Digikey; Supplier1-PN: 1276-3496-2-ND; Component Type: RES-1608-220R; Category: Resistor; Status: Active
footprint ECE-RESC1608-0603SM
pins: 1, 2

## RES000131
designator R?, comment 270R  (value not drawn)
RES CER 270R 1608 SM; UoA Stock#: RES000131; Assembly Method: Surface Mount; Voltage/Current: 1/10W; Item Type: Item; Path: ece/ts/Lists/Stock Inventory; Value: 270R; Size/Package: 1608 (0603); Component Type: RES-1608-270R; Category: Resistor; Status: Active
footprint ECE-RESC1608-0603SM
pins: 1, 2

## RES000132
designator R?, comment 330R  (value not drawn)
RES CER 330R 1608 SM; Manufactuer: Panasonic; Manufacturer-PN: ERJ-3EKF3300V; UoA Stock#: RES000132; Assembly Method: Surface Mount; Voltage/Current: 1/10W; Item Type: Item; Path: ece/ts/Lists/Stock Inventory; Value: 330R; Size/Package: 1608 (0603); Datasheet Link: http://share.engineering.auckland.ac.nz/ece/ts/Student%20Documents/Panasonic-Resistors.pdf; Supplier1: Digikey; Supplier1-PN: P330HTR-ND; Component Type: RES-1608-330R; Category: Resistor; Status: Active
footprint ECE-RESC1608-0603SM
pins: 1, 2

## RES000133
designator R?, comment 390R  (value not drawn)
RES CER 390R 1608 SM; UoA Stock#: RES000133; Assembly Method: Surface Mount; Voltage/Current: 1/10W; Item Type: Item; Path: ece/ts/Lists/Stock Inventory; Value: 390R; Size/Package: 1608 (0603); Component Type: RES-1608-390R; Category: Resistor; Status: Active
footprint ECE-RESC1608-0603SM
pins: 1, 2

## RES000134
designator R?, comment 470R  (value not drawn)
RES CER 470R 1608 SM; Manufactuer: Yageo; Manufacturer-PN: RC0603FR-07470RL; UoA Stock#: RES000134; Assembly Method: Surface Mount; Voltage/Current: 1/10W; Item Type: Item; Path: ece/ts/Lists/Stock Inventory; Value: 470R; Size/Package: 1608 (0603); Datasheet Link: http://share.engineering.auckland.ac.nz/ece/ts/Student%20Documents/Yageo-Resistors.pdf; Supplier1: Digikey; Supplier1-PN: 311-470HRTR-ND; Component Type: RES-1608-470R; Category: Resistor; Status: Active
footprint ECE-RESC1608-0603SM
pins: 1, 2

## RES000135
designator R?, comment 560R  (value not drawn)
RES CER 560R 1608 SM; UoA Stock#: RES000135; Assembly Method: Surface Mount; Voltage/Current: 1/10W; Item Type: Item; Path: ece/ts/Lists/Stock Inventory; Value: 560R; Size/Package: 1608 (0603); Component Type: RES-1608-560R; Category: Resistor; Status: Active
footprint ECE-RESC1608-0603SM
pins: 1, 2

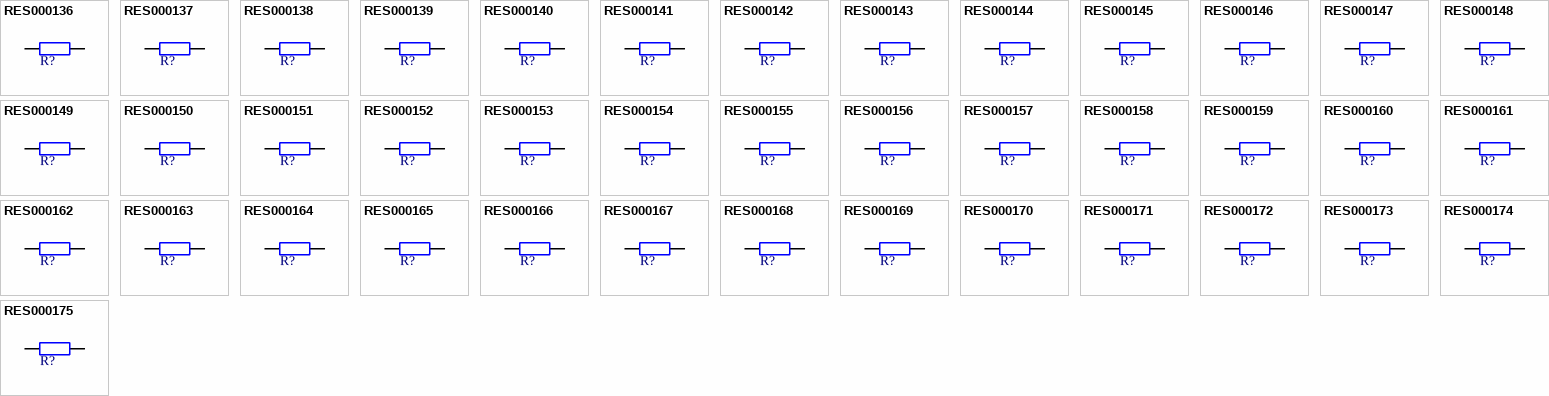
[diagram p3: symbols RES000136 to RES000175]

## RES000136
designator R?, comment 680R  (value not drawn)
RES CER 680R 1608 SM; Manufactuer: Yageo; Manufacturer-PN: RC0603FR-07680RL; UoA Stock#: RES000136; Assembly Method: Surface Mount; Voltage/Current: 1/10W; Item Type: Item; Path: ece/ts/Lists/Stock Inventory; Value: 680R; Size/Package: 1608 (0603); Datasheet Link: http://share.engineering.auckland.ac.nz/ece/ts/Student%20Documents/Yageo-Resistors.pdf; Supplier1: Digikey; Supplier1-PN: 311-680HRTR-ND; Component Type: RES-1608-680R; Category: Resistor; Status: Active
footprint ECE-RESC1608-0603SM
pins: 1, 2

## RES000137
designator R?, comment 820R  (value not drawn)
RES CER 820R 1608 SM; UoA Stock#: RES000137; Assembly Method: Surface Mount; Voltage/Current: 1/10W; Item Type: Item; Path: ece/ts/Lists/Stock Inventory; Value: 820R; Size/Package: 1608 (0603); Component Type: RES-1608-820R; Category: Resistor; Status: Active
footprint ECE-RESC1608-0603SM
pins: 1, 2

## RES000138
designator R?, comment 1K  (value not drawn)
RES CER 1K 1608 SM; Manufactuer: Panasonic; Manufacturer-PN: ERJ-3EKF1001V; UoA Stock#: RES000138; Assembly Method: Surface Mount; Voltage/Current: 1/10W; Item Type: Item; Path: ece/ts/Lists/Stock Inventory; Value: 1K; Size/Package: 1608 (0603); Datasheet Link: http://share.engineering.auckland.ac.nz/ece/ts/Student%20Documents/Panasonic-Resistors.pdf; Supplier1: Digikey; Supplier1-PN: P1.00KHTR-ND; Component Type: RES-1608-1K; Category: Resistor; Status: Active
footprint ECE-RESC1608-0603SM
pins: 1, 2

## RES000139
designator R?, comment 1k2  (value not drawn)
RES CER 1K2 1608 SM; UoA Stock#: RES000139; Assembly Method: Surface Mount; Voltage/Current: 1/10W; Item Type: Item; Path: ece/ts/Lists/Stock Inventory; Value: 1k2; Size/Package: 1608 (0603); Supplier1: Digikey; Supplier1-PN: 1276-4651-2-ND; Component Type: RES-1608-1K2; Category: Resistor; Status: Active
footprint ECE-RESC1608-0603SM
pins: 1, 2

## RES000140
designator R?, comment 1K5  (value not drawn)
RES CER 1K5 1608 SM; Manufactuer: Yageo; Manufacturer-PN: RC0603FR-071K5L; UoA Stock#: RES000140; Assembly Method: Surface Mount; Voltage/Current: 1/10W; Item Type: Item; Path: ece/ts/Lists/Stock Inventory; Value: 1K5; Size/Package: 1608 (0603); Datasheet Link: http://share.engineering.auckland.ac.nz/ece/ts/Student%20Documents/Yageo-Resistors.pdf; Supplier1: Digikey; Supplier1-PN: 311-1.50KHRTR-ND; Component Type: RES-1608-1K5; Category: Resistor; Status: Active
footprint ECE-RESC1608-0603SM
pins: 1, 2